# Altium footprint library SKYWORKS TDFN-14 2.2X2.2MM.PCBLIB: 1 footprints
Each footprint in its own frame and in the unit in brackets; x right, y up, seen from the top. Pads: shape width x height; smd on the part's side, far side on the other; paste and mask are expansions set on the pad; w line width, h text height; cw(c..) or ccw(c..) is an arc to the next point about the centre after c.
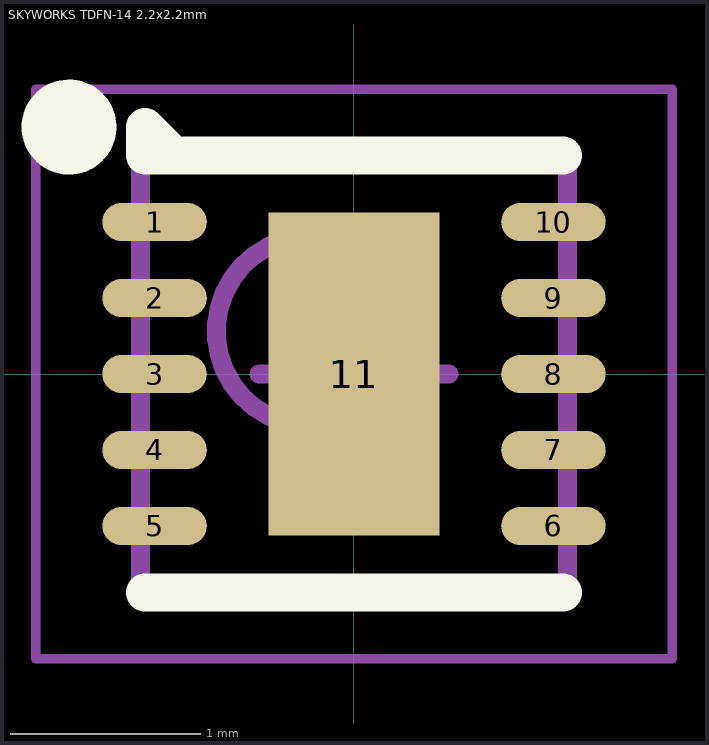
[diagram p0: the footprint, top view; thin cyan lines are the x and y axes]

## SKYWORKS TDFN-14 2.2x2.2mm [mm] "TDFN, 14-Leads, Body 2.20x2.20mm, Pitch 0.40mm, Thermal Pad 0.90x1.70mm, IPC Medium Density"
height 0.75
pads (11):
  oval 0.55x0.2 smd: 1(-1.05,0.8) 2(-1.05,0.4) 3(-1.05,0) 4(-1.05,-0.4) 5(-1.05,-0.8) 6(1.05,-0.8) 7(1.05,-0.4) 8(1.05,0) 9(1.05,0.4) 10(1.05,0.8)
  rect 0.9x1.7 smd: 11(0,0)
Top Overlay:
  circle w0.25: c-1.5,1.3 r0.125
  lines w0.2: -1.1,-1.15 1.1,-1.15 ; -0.95,1.15 -1.1,1.3 -1.1,1.15 1.1,1.15
Mechanical 13:
  circle w0.1: c-0.225,0.225 r0.5
  lines w0.1: -1.125,-1.125 1.125,-1.125 1.125,1.125 -1.125,1.125 -1.125,-1.125
Mechanical 15:
  lines w0.05: -1.675,-1.5 1.675,-1.5 1.675,1.5 -1.675,1.5 -1.675,-1.5
  lines w0.1: -0.5,0 0.5,0 ; 0,-0.5 0,0.5
3D body: height 0.75, standoff 0.01, extent -1.125,-1.125 1.125,1.125